# Altium schematic symbol library Schlib1.SchLib: 1 symbol
Pins are listed as number, name and electrical type; pins without a type are passive.

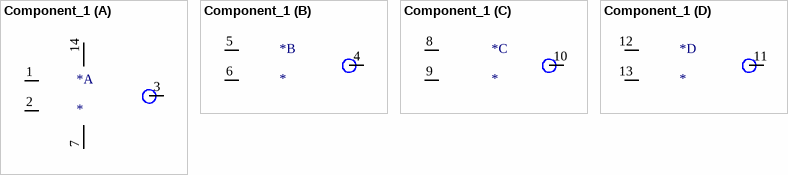
[diagram p0: symbol Component_1]

## Component_1
designator *
part A pins: 1, 2, 3, 7, 14
part B pins: 4, 5, 6
part C pins: 8, 9, 10
part D pins: 11, 12, 13